# Altium schematic symbol library LIB_SCH.SchLib: 36 symbols
Pins are listed as number, name and electrical type; pins without a type are passive.

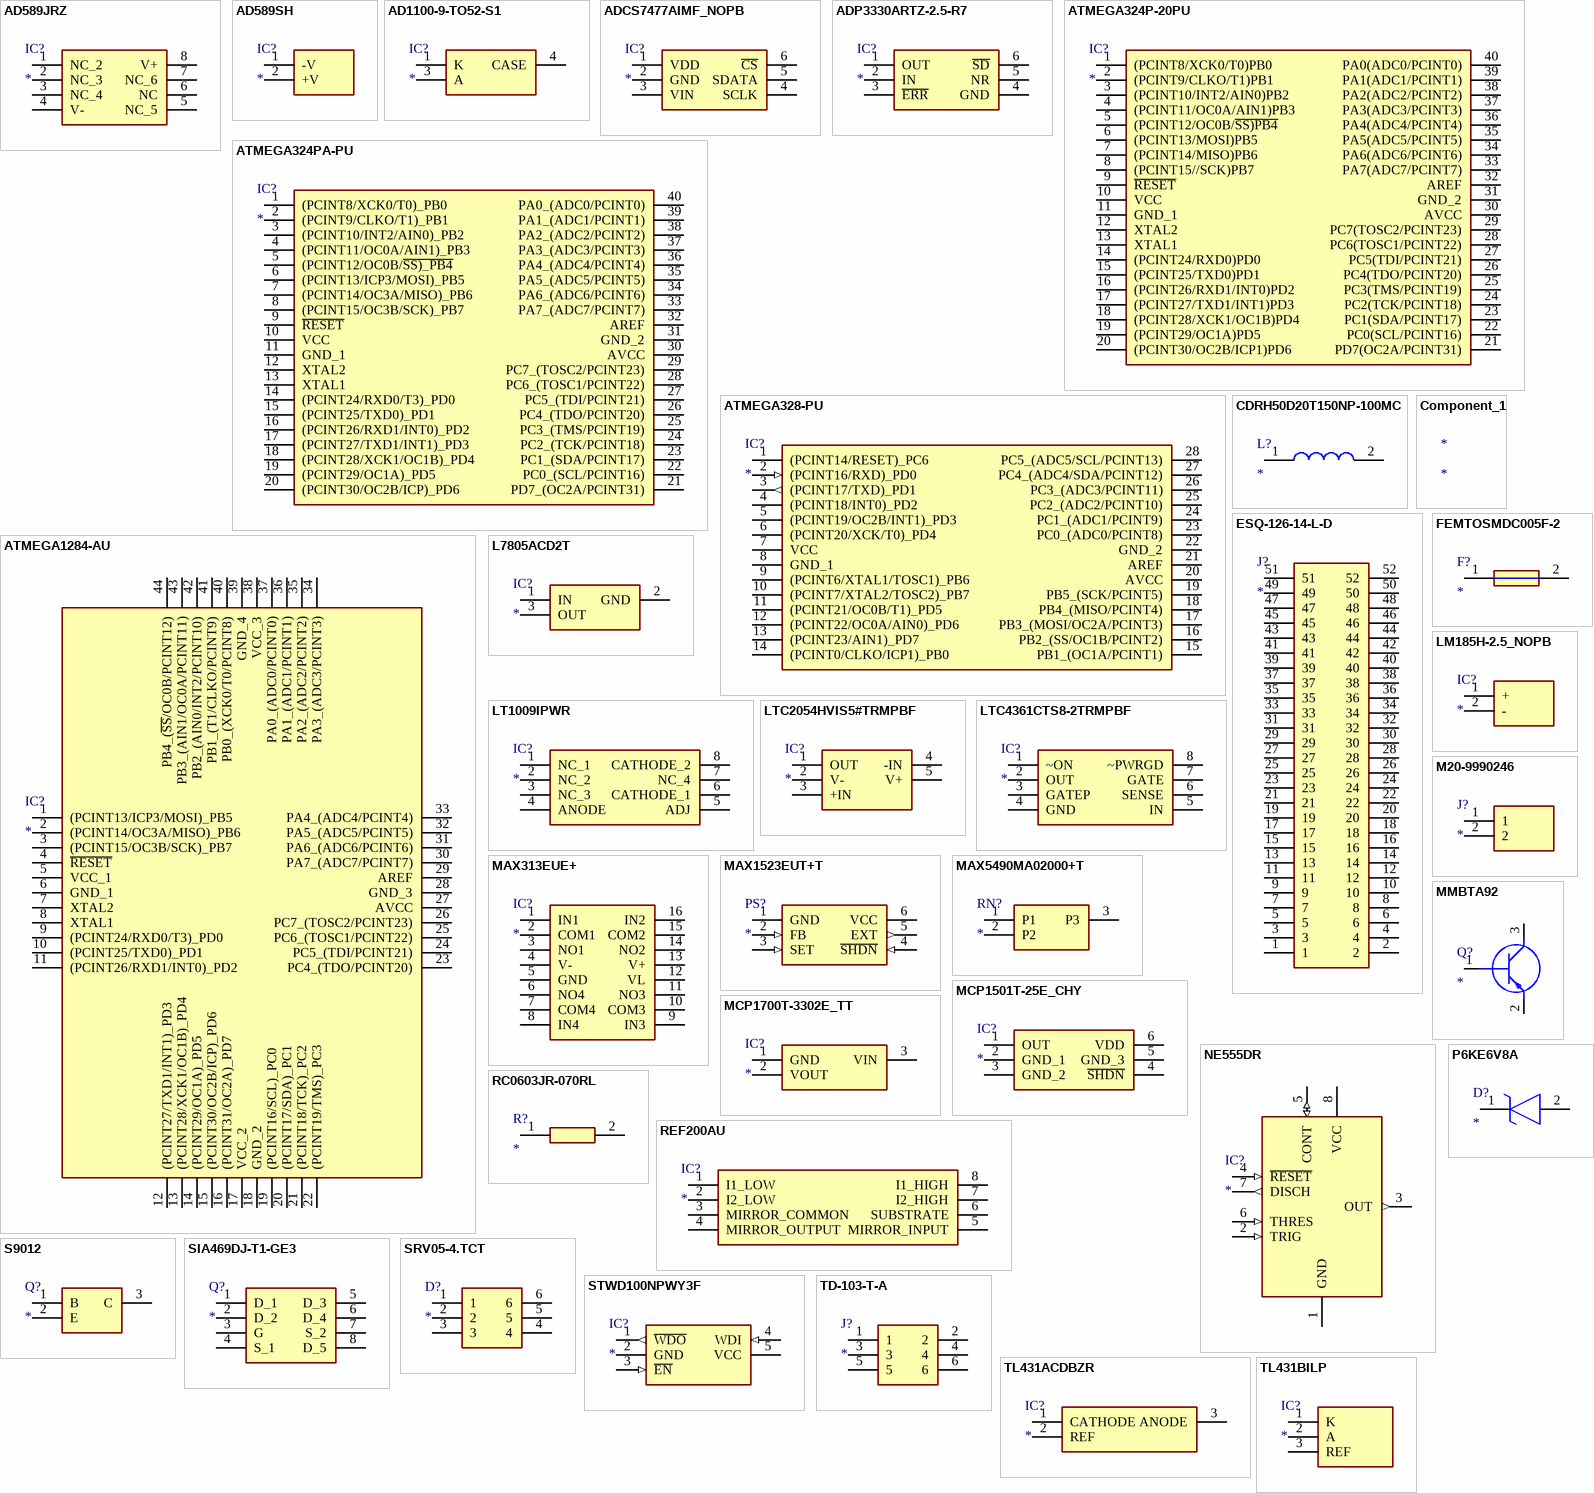
[diagram p0: symbols AD589JRZ to TL431BILP]

## AD589JRZ
designator IC?
Integrated Circuit; Manufacturer_Name: Analog Devices; Manufacturer_Part_Number: AD589JRZ; Mouser Part Number: 584-AD589JRZ; Mouser Price/Stock: https://www.mouser.co.uk/ProductDetail/Analog-Devices/AD589JRZ?qs=NmRFExCfTkHzEtio2bVR0A%3D%3D; Arrow Part Number: AD589JRZ; Arrow Price/Stock: https://www.arrow.com/en/products/ad589jrz/analog-devices
footprint SOIC127P600X175-8N
pins: 1 NC_2, 2 NC_3, 3 NC_4, 4 V-, 5 NC_5, 6 NC, 7 NC_6, 8 V+

## AD589SH
designator IC?
Integrated Circuit; Manufacturer_Name: Analog Devices; Manufacturer_Part_Number: AD589SH; Datasheet Link: https://www.analog.com/media/en/technical-documentation/data-sheets/AD589.pdf; Height: 3.81mm; Mouser Part Number: 584-AD589SH; Mouser Price/Stock: https://www.mouser.co.uk/ProductDetail/Analog-Devices/AD589SH?qs=NmRFExCfTkHqcB3b9%2F7R8g%3D%3D; Arrow Part Number: AD589SH; Arrow Price/Stock: https://www.arrow.com/en/products/ad589sh/analog-devices
footprint AD589SH
pins: 1 -V, 2 +V

## AD1100-9-TO52-S1
designator IC?
Integrated Circuit; Manufacturer_Name: First Sensor; Manufacturer_Part_Number: AD1100-9-TO52-S1; Datasheet Link: https://componentsearchengine.com/Datasheets/1/AD1100-9-TO52-S1.pdf; Height: 3.6mm; Mouser Part Number: 718-AD1100-9-TO52-S1; Mouser Price/Stock: https://www.mouser.co.uk/ProductDetail/First-Sensor/AD1100-9-TO52-S1?qs=keRvjh9BIFXF%252B1mnp2TOEA%3D%3D
footprint AD11009TO52S1
pins: 1 K, 3 A, 4 CASE

## ADCS7477AIMF_NOPB
designator IC?
Integrated Circuit; Manufacturer_Name: Texas Instruments; Manufacturer_Part_Number: ADCS7477AIMF/NOPB; Datasheet Link: http://www.ti.com/lit/gpn/adcs7477; Height: 1.45mm; Mouser Part Number: 926-ADCS7477AIMFNOPB; Mouser Price/Stock: https://www.mouser.co.uk/ProductDetail/Texas-Instruments/ADCS7477AIMF-NOPB?qs=7X5t%252BdzoRHDVFfiGvESEcQ%3D%3D; Arrow Part Number: ADCS7477AIMF/NOPB; Arrow Price/Stock: https://www.arrow.com/en/products/adcs7477aimfnopb/texas-instruments?region=nac
footprint SOT95P280X145-6N
pins: 1 VDD, 2 GND, 3 VIN, 4 SCLK, 5 SDATA, 6 ~{CS}

## ADP3330ARTZ-2.5-R7
designator IC?
Integrated Circuit; Manufacturer_Name: Analog Devices; Manufacturer_Part_Number: ADP3330ARTZ-2.5-R7; Datasheet Link: http://www.analog.com/static/imported-files/data_sheets/ADP3330.pdf; Height: 1.45mm; Mouser Part Number: 584-ADP3330ARTZ2.5R7; Mouser Price/Stock: https://www.mouser.co.uk/ProductDetail/Analog-Devices/ADP3330ARTZ-2.5-R7?qs=WIvQP4zGanjH7wtIYIB7Qw%3D%3D; Arrow Part Number: ADP3330ARTZ-2.5-R7; Arrow Price/Stock: https://www.arrow.com/en/products/adp3330artz-2.5-r7/analog-devices?utm_currency=USD&region=nac
footprint SOT95P280X145-6N
pins: 1 OUT, 2 IN, 3 ~{ERR}, 4 GND, 5 NR, 6 ~{SD}

## ATMEGA324P-20PU
designator IC?
Integrated Circuit; Manufacturer_Name: Microchip; Manufacturer_Part_Number: ATMEGA324P-20PU; Datasheet Link: https://datasheet.datasheetarchive.com/originals/distributors/Datasheets_SAMA/29f946cd03c7909d7b046ef5bb69a087.pdf; Height: 4.826mm; Mouser Part Number: 556-ATMEGA324P-20PU; Mouser Price/Stock: https://www.mouser.co.uk/ProductDetail/Microchip-Technology-Atmel/ATMEGA324P-20PU?qs=2mdvTlUeTfB7iniaUokNuw%3D%3D; Arrow Part Number: ATMEGA324P-20PU; Arrow Price/Stock: https://www.arrow.com/en/products/atmega324p-20pu/microchip-technology?region=nac
footprint DIP1556W56P254L5232H483Q40N
pins: 1 (PCINT8/XCK0/T0)PB0, 2 (PCINT9/CLKO/T1)PB1, 3 (PCINT10/INT2/AIN0)PB2, 4 (PCINT11/OC0A/AIN1)PB3, 5 (PCINT12/OC0B/~{SS)PB4}, 6 (PCINT13/MOSI)PB5, 7 (PCINT14/MISO)PB6, 8 (PCINT15//SCK)PB7, 9 ~{RESET}, 10 VCC, 11 GND_1, 12 XTAL2, 13 XTAL1, 14 (PCINT24/RXD0)PD0, 15 (PCINT25/TXD0)PD1, 16 (PCINT26/RXD1/INT0)PD2, 17 (PCINT27/TXD1/INT1)PD3, 18 (PCINT28/XCK1/OC1B)PD4, 19 (PCINT29/OC1A)PD5, 20 (PCINT30/OC2B/ICP1)PD6, 21 PD7(OC2A/PCINT31), 22 PC0(SCL/PCINT16), 23 PC1(SDA/PCINT17), 24 PC2(TCK/PCINT18), 25 PC3(TMS/PCINT19), 26 PC4(TDO/PCINT20), 27 PC5(TDI/PCINT21), 28 PC6(TOSC1/PCINT22), 29 PC7(TOSC2/PCINT23), 30 AVCC, 31 GND_2, 32 AREF, 33 PA7(ADC7/PCINT7), 34 PA6(ADC6/PCINT6), 35 PA5(ADC5/PCINT5), 36 PA4(ADC4/PCINT4), 37 PA3(ADC3/PCINT3), 38 PA2(ADC2/PCINT2), 39 PA1(ADC1/PCINT1), 40 PA0(ADC0/PCINT0)

## ATMEGA324PA-PU
designator IC?
Integrated Circuit; Manufacturer_Name: Microchip; Manufacturer_Part_Number: ATMEGA324PA-PU; Datasheet Link: http://www.atmel.com/images/atmel-8272-8-bit-avr-microcontroller-atmega164a_pa-324a_pa-644a_pa-1284_p_summary.pdf; Height: 6.35mm; Mouser Part Number: 556-ATMEGA324PA-PU; Mouser Price/Stock: https://www.mouser.co.uk/ProductDetail/Microchip-Technology/ATMEGA324PA-PU?qs=nE%2FgAoToukEVEV5bCZTgFQ%3D%3D; Arrow Part Number: ATMEGA324PA-PU; Arrow Price/Stock: https://www.arrow.com/en/products/atmega324pa-pu/microchip-technology?region=europe
footprint DIP1543W58P254L5175H635Q40N
pins: 1 (PCINT8/XCK0/T0)_PB0, 2 (PCINT9/CLKO/T1)_PB1, 3 (PCINT10/INT2/AIN0)_PB2, 4 (PCINT11/OC0A/AIN1)_PB3, 5 (PCINT12/OC0B/~{SS)_PB4}, 6 (PCINT13/ICP3/MOSI)_PB5, 7 (PCINT14/OC3A/MISO)_PB6, 8 (PCINT15/OC3B/SCK)_PB7, 9 ~{RESET}, 10 VCC, 11 GND_1, 12 XTAL2, 13 XTAL1, 14 (PCINT24/RXD0/T3)_PD0, 15 (PCINT25/TXD0)_PD1, 16 (PCINT26/RXD1/INT0)_PD2, 17 (PCINT27/TXD1/INT1)_PD3, 18 (PCINT28/XCK1/OC1B)_PD4, 19 (PCINT29/OC1A)_PD5, 20 (PCINT30/OC2B/ICP)_PD6, 21 PD7_(OC2A/PCINT31), 22 PC0_(SCL/PCINT16), 23 PC1_(SDA/PCINT17), 24 PC2_(TCK/PCINT18), 25 PC3_(TMS/PCINT19), 26 PC4_(TDO/PCINT20), 27 PC5_(TDI/PCINT21), 28 PC6_(TOSC1/PCINT22), 29 PC7_(TOSC2/PCINT23), 30 AVCC, 31 GND_2, 32 AREF, 33 PA7_(ADC7/PCINT7), 34 PA6_(ADC6/PCINT6), 35 PA5_(ADC5/PCINT5), 36 PA4_(ADC4/PCINT4), 37 PA3_(ADC3/PCINT3), 38 PA2_(ADC2/PCINT2), 39 PA1_(ADC1/PCINT1), 40 PA0_(ADC0/PCINT0)

## ATMEGA328-PU
designator IC?
Integrated Circuit; Manufacturer_Name: Microchip; Manufacturer_Part_Number: ATMEGA328-PU; Datasheet Link: https://componentsearchengine.com/Datasheets/1/ATMEGA328-PU.pdf; Height: 4.572mm; Mouser Part Number: 556-ATMEGA328-PU; Mouser Price/Stock: https://www.mouser.co.uk/ProductDetail/Microchip-Technology/ATMEGA328-PU?qs=lwdSMh1%2FoYJT8tfItQpQtA%3D%3D; Arrow Part Number: ATMEGA328-PU; Arrow Price/Stock: https://www.arrow.com/en/products/atmega328-pu/microchip-technology?region=nac
footprint DIP1016W53P254L3468H457Q28N
pins: 1 (PCINT14/RESET)_PC6, 2 (PCINT16/RXD)_PD0 (in), 3 (PCINT17/TXD)_PD1 (out), 4 (PCINT18/INT0)_PD2, 5 (PCINT19/OC2B/INT1)_PD3, 6 (PCINT20/XCK/T0)_PD4, 7 VCC (power), 8 GND_1 (power), 9 (PCINT6/XTAL1/TOSC1)_PB6, 10 (PCINT7/XTAL2/TOSC2)_PB7, 11 (PCINT21/OC0B/T1)_PD5, 12 (PCINT22/OC0A/AIN0)_PD6, 13 (PCINT23/AIN1)_PD7, 14 (PCINT0/CLKO/ICP1)_PB0, 15 PB1_(OC1A/PCINT1), 16 PB2_(SS/OC1B/PCINT2), 17 PB3_(MOSI/OC2A/PCINT3), 18 PB4_(MISO/PCINT4), 19 PB5_(SCK/PCINT5), 20 AVCC (power), 21 AREF, 22 GND_2 (power), 23 PC0_(ADC0/PCINT8), 24 PC1_(ADC1/PCINT9), 25 PC2_(ADC2/PCINT10), 26 PC3_(ADC3/PCINT11), 27 PC4_(ADC4/SDA/PCINT12), 28 PC5_(ADC5/SCL/PCINT13)

## ATMEGA1284-AU
designator IC?
Integrated Circuit; Manufacturer_Name: Microchip; Manufacturer_Part_Number: ATMEGA1284-AU; Datasheet Link: https://ww1.microchip.com/downloads/aemDocuments/documents/MCU08/ProductDocuments/DataSheets/ATmega164A_PA-324A_PA-644A_PA-1284_P_Data-Sheet-40002070B.pdf; Height: 1.2mm; Mouser Part Number: 556-ATMEGA1284-AU; Mouser Price/Stock: https://www.mouser.co.uk/ProductDetail/Microchip-Technology/ATMEGA1284-AU?qs=lwdSMh1%2FoYIVc6su4YHQGg%3D%3D; Arrow Part Number: ATMEGA1284-AU; Arrow Price/Stock: https://www.arrow.com/en/products/atmega1284-au/microchip-technology?region=europe
footprint QFP80P1200X1200X120-44N
pins: 1 (PCINT13/ICP3/MOSI)_PB5, 2 (PCINT14/OC3A/MISO)_PB6, 3 (PCINT15/OC3B/SCK)_PB7, 4 ~{RESET}, 5 VCC_1, 6 GND_1, 7 XTAL2, 8 XTAL1, 9 (PCINT24/RXD0/T3)_PD0, 10 (PCINT25/TXD0)_PD1, 11 (PCINT26/RXD1/INT0)_PD2, 12 (PCINT27/TXD1/INT1)_PD3, 13 (PCINT28/XCK1/OC1B)_PD4, 14 (PCINT29/OC1A)_PD5, 15 (PCINT30/OC2B/ICP)_PD6, 16 (PCINT31/OC2A)_PD7, 17 VCC_2, 18 GND_2, 19 (PCINT16/SCL)_PC0, 20 (PCINT17/SDA)_PC1, 21 (PCINT18/TCK)_PC2, 22 (PCINT19/TMS)_PC3, 23 PC4_(TDO/PCINT20), 24 PC5_(TDI/PCINT21), 25 PC6_(TOSC1/PCINT22), 26 PC7_(TOSC2/PCINT23), 27 AVCC, 28 GND_3, 29 AREF, 30 PA7_(ADC7/PCINT7), 31 PA6_(ADC6/PCINT6), 32 PA5_(ADC5/PCINT5), 33 PA4_(ADC4/PCINT4), 34 PA3_(ADC3/PCINT3), 35 PA2_(ADC2/PCINT2), 36 PA1_(ADC1/PCINT1), 37 PA0_(ADC0/PCINT0), 38 VCC_3, 39 GND_4, 40 PB0_(XCK0/T0/PCINT8), 41 PB1_(T1/CLKO/PCINT9), 42 PB2_(AIN0/INT2/PCINT10), 43 PB3_(AIN1/OC0A/PCINT11), 44 PB4_(~{SS}/OC0B/PCINT12)

## CDRH50D20T150NP-100MC
designator L?
Inductor; Manufacturer_Name: Sumida; Manufacturer_Part_Number: CDRH50D20T150NP-100MC; Datasheet Link: https://products.sumida.com/products/pdf/CDRH50D20T150_20140620.pdf; Height: 2.2mm; Mouser Part Number: 851-CDRH50D20T150100; Mouser Price/Stock: https://www.mouser.co.uk/ProductDetail/Sumida/CDRH50D20T150NP-100MC?qs=qSfuJ%252Bfl%2Fd4yojmKen2mmg%3D%3D
footprint CDRH50D20T150NP100MC
pins: 1, 2

## Component_1
designator *

## ESQ-126-14-L-D
designator J?
Connector; Manufacturer_Name: SAMTEC; Manufacturer_Part_Number: ESQ-126-14-L-D; Datasheet Link: http://suddendocs.samtec.com/prints/esq-1xx-xx-x-x-xxx-xx-x-xx-mkt.pdf; Mouser Part Number: 200-ESQ12614LD; Mouser Price/Stock: https://www.mouser.com/Search/Refine.aspx?Keyword=200-ESQ12614LD
footprint ESQ-126-Y-X-D
pins: 1, 2, 3, 4, 5, 6, 7, 8, 9, 10, 11, 12, 13, 14, 15, 16, 17, 18, 19, 20, 21, 22, 23, 24, 25, 26, 27, 28, 29, 30, 31, 32, 33, 34, 35, 36, 37, 38, 39, 40, 41, 42, 43, 44, 45, 46, 47, 48, 49, 50, 51, 52

## FEMTOSMDC005F-2
designator F?
Fuse; Manufacturer_Name: LITTELFUSE; Manufacturer_Part_Number: FEMTOSMDC005F-2; Datasheet Link: https://www.littelfuse.com/~/media/electronics/product_specifications/resettable_ptcs/littelfuse_ptc_femtosmdc005f_2_product_specification.pdf.pdf; Height: 0.85mm; Mouser Part Number: 650-FEMTOSMDC005F-2; Mouser Price/Stock: https://www.mouser.co.uk/ProductDetail/Littelfuse/FEMTOSMDC005F-2?qs=pBN%2FbMTRZde7DjsO%252B0Ugag%3D%3D; Arrow Part Number: FEMTOSMDC005F-2; Arrow Price/Stock: https://www.arrow.com/en/products/femtosmdc005f-2/littelfuse?region=nac
footprint FUSC1608X85N
pins: 1, 2

## L7805ACD2T
designator IC?
Integrated Circuit; Manufacturer_Name: STMicroelectronics; Manufacturer_Part_Number: L7805ACD2T; Datasheet Link: https://componentsearchengine.com/Datasheets/1/L7805ACD2T.pdf; Height: 4mm; Mouser Part Number: 511-L7805ACD2T; Mouser Price/Stock: https://www.mouser.co.uk/ProductDetail/STMicroelectronics/L7805ACD2T?qs=f9uBznyCLhZ5tRIsM0TDkA%3D%3D
footprint STB20N95K5
pins: 1 IN, 2 GND, 3 OUT

## LM185H-2.5_NOPB
designator IC?
Integrated Circuit; Manufacturer_Name: Texas Instruments; Manufacturer_Part_Number: LM185H-2.5/NOPB; Datasheet Link: http://www.ti.com/lit/ds/symlink/lm185-adj.pdf; Height: 2.67mm; Mouser Part Number: 926-LM185H-25/NOPB; Mouser Price/Stock: https://www.mouser.com/Search/Refine.aspx?Keyword=926-LM185H-25%2FNOPB; Arrow Part Number: LM185H-2.5/NOPB; Arrow Price/Stock: https://www.arrow.com/en/products/lm185h-2.5nopb/texas-instruments
footprint LM185H25NOPB
pins: 1 +, 2 -

## LT1009IPWR
designator IC?
Integrated Circuit; Manufacturer_Name: Texas Instruments; Manufacturer_Part_Number: LT1009IPWR; Datasheet Link: http://www.ti.com/lit/gpn/lt1009; Height: 1.2mm; Mouser Part Number: 595-LT1009IPWR; Mouser Price/Stock: https://www.mouser.co.uk/ProductDetail/Texas-Instruments/LT1009IPWR?qs=paYhMW8qfivxcJ0dEN%2FpAA%3D%3D; Arrow Part Number: LT1009IPWR; Arrow Price/Stock: https://www.arrow.com/en/products/lt1009ipwr/texas-instruments?region=nac
footprint SOP65P640X120-8N
pins: 1 NC_1, 2 NC_2, 3 NC_3, 4 ANODE, 5 ADJ, 6 CATHODE_1, 7 NC_4, 8 CATHODE_2

## LTC2054HVIS5#TRMPBF
designator IC?
Integrated Circuit; Manufacturer_Name: Analog Devices; Manufacturer_Part_Number: LTC2054HVIS5#TRMPBF; Datasheet Link: https://componentsearchengine.com/Datasheets/2/LTC2054HVIS5#TRMPBF.pdf; Height: 1mm; Mouser Part Number: 584-C2054HVIS5TRMPBF; Mouser Price/Stock: https://www.mouser.co.uk/ProductDetail/Analog-Devices/LTC2054HVIS5TRMPBF?qs=hVkxg5c3xu8d%252Bhq5ZkgbWA%3D%3D; Arrow Part Number: LTC2054HVIS5#TRMPBF; Arrow Price/Stock: https://www.arrow.com/en/products/ltc2054hvis5trmpbf/analog-devices?region=nac
footprint SOT95P280X100-5N
pins: 1 OUT, 2 V-, 3 +IN, 4 -IN, 5 V+

## LTC4361CTS8-2TRMPBF
designator IC?
Integrated Circuit; Manufacturer_Name: Analog Devices; Manufacturer_Part_Number: LTC4361CTS8-2TRMPBF
footprint SOT65P280X100-8N
pins: 1 ~ON, 2 OUT, 3 GATEP, 4 GND, 5 IN, 6 SENSE, 7 GATE, 8 ~PWRGD

## M20-9990246
designator J?
Connector; Manufacturer_Name: Harwin; Manufacturer_Part_Number: M20-9990246; Datasheet Link: https://cdn.harwin.com/pdfs/M20-999.pdf; Height: 8.74mm; Mouser Part Number: 855-M20-9990246; Mouser Price/Stock: https://www.mouser.co.uk/ProductDetail/Harwin/M20-9990246?qs=Jph8NoUxIfWjw4WmyRvzag%3D%3D
footprint HDRV2W66P0X254_1X2_508X254X874P
pins: 1, 2

## MAX313EUE+
designator IC?
Integrated Circuit; Manufacturer_Name: Analog Devices; Manufacturer_Part_Number: MAX313EUE+; Datasheet Link: https://pdfserv.maximintegrated.com/en/ds/MAX312-MAX314.pdf; Height: 1.1mm; Mouser Part Number: 700-MAX313EUE; Mouser Price/Stock: https://www.mouser.co.uk/ProductDetail/Analog-Devices-Maxim-Integrated/MAX313EUE%2b?qs=LHmEVA8xxfb0QccvxvFNCw%3D%3D
footprint SOP65P640X110-16N
pins: 1 IN1, 2 COM1, 3 NO1, 4 V-, 5 GND, 6 NO4, 7 COM4, 8 IN4, 9 IN3, 10 COM3, 11 NO3, 12 VL, 13 V+, 14 NO2, 15 COM2, 16 IN2

## MAX1523EUT+T
designator PS?
Power Supply; Manufacturer_Name: Analog Devices; Manufacturer_Part_Number: MAX1523EUT+T; Datasheet Link: https://componentsearchengine.com/Datasheets/2/MAX1523EUT+T.pdf; Height: 1.45mm; Mouser Part Number: 700-MAX1523EUTT; Mouser Price/Stock: https://www.mouser.co.uk/ProductDetail/Analog-Devices-Maxim-Integrated/MAX1523EUT%2bT?qs=Mqkh4jHMT8xQeKs%2FTYwXvQ%3D%3D
footprint SOT95P280X145-6N
pins: 1 GND (power), 2 FB (in), 3 SET (in), 4 ~{SHDN} (in), 5 EXT (out), 6 VCC (power)

## MAX5490MA02000+T
designator RN?
Resistor Network; Manufacturer_Name: Analog Devices; Manufacturer_Part_Number: MAX5490MA02000+T; Datasheet Link: https://eagle.componentsearchengine.com/Datasheets/2/MAX5490MA02000+T.pdf; Height: 1.12mm; Mouser Part Number: 700-MAX5490MA02000T; Mouser Price/Stock: https://www.mouser.co.uk/ProductDetail/Maxim-Integrated/MAX5490MA02000%2bT/?qs=nuXzIS8loXHYJGIDTV43Fg%3D%3D
footprint SOT95P237X112-3N
pins: 1 P1, 2 P2, 3 P3

## MCP1501T-25E_CHY
designator IC?
Integrated Circuit; Manufacturer_Name: Microchip; Manufacturer_Part_Number: MCP1501T-25E/CHY; Datasheet Link: http://ww1.microchip.com/downloads/en/DeviceDoc/20005474E.pdf; Height: 1.45mm; Mouser Part Number: 579-MCP1501T-25E/CHY; Mouser Price/Stock: https://www.mouser.co.uk/ProductDetail/Microchip-Technology/MCP1501T-25E-CHY?qs=8cKuZ6Ok2lamKE%2FJSRA5Gw%3D%3D; Arrow Part Number: MCP1501T-25E/CHY; Arrow Price/Stock: https://www.arrow.com/en/products/mcp1501t-25echy/microchip-technology?region=nac
footprint SOT95P280X145-6N
pins: 1 OUT, 2 GND_1, 3 GND_2, 4 ~{SHDN}, 5 GND_3, 6 VDD

## MCP1700T-3302E_TT
designator IC?
Integrated Circuit; Manufacturer_Name: Microchip; Manufacturer_Part_Number: MCP1700T-3302E/TT; Datasheet Link: https://datasheet.datasheetarchive.com/originals/distributors/SFDatasheet-4/sf-00090030.pdf; Height: 1.12mm; Mouser Part Number: 579-MCP1700T3302E/TT; Mouser Price/Stock: https://www.mouser.co.uk/ProductDetail/Microchip-Technology/MCP1700T-3302E-TT?qs=fM4xO01eazPmCNDrdHEdaw%3D%3D; Arrow Part Number: MCP1700T-3302E/TT; Arrow Price/Stock: https://www.arrow.com/en/products/mcp1700t-3302ett/microchip-technology?utm_currency=USD&region=europe
footprint SOT95P237X112-3N
pins: 1 GND, 2 VOUT, 3 VIN

## MMBTA92
designator Q?
Transistor BJT PNP; Manufacturer_Name: KEC; Manufacturer_Part_Number: MMBTA92; Datasheet Link: https://www.alldatasheet.com/datasheet-pdf/pdf/69996/KEC/MMBTA92.html; Height: 1.3mm
footprint SOT95P245X130-3N
pins: 1 B, 2 E, 3 C

## NE555DR
designator IC?
Integrated Circuit; Manufacturer_Name: Texas Instruments; Manufacturer_Part_Number: NE555DR; Datasheet Link: http://www.ti.com/lit/ds/symlink/ne555.pdf; Height: 1.75mm; Mouser Part Number: 595-NE555DR; Mouser Price/Stock: https://www.mouser.com/Search/Refine.aspx?Keyword=595-NE555DR; RS Part Number: 1218414; RS Price/Stock: http://uk.rs-online.com/web/p/products/1218414
footprint SOIC127P600X175-8N
pins: 1 GND (power), 2 TRIG (in), 3 OUT (out), 4 ~{RESET} (in), 5 CONT (io), 6 THRES (in), 7 DISCH (out), 8 VCC (power)

## P6KE6V8A
designator D?
TVS Diode (Uni-directional); Manufacturer_Name: STMicroelectronics; Manufacturer_Part_Number: P6KE6V8A; Datasheet Link: http://www.st.com/web/en/resource/technical/document/datasheet/CD00000720.pdf; Mouser Part Number: 511-P6KE6V8A; Mouser Price/Stock: https://www.mouser.co.uk/ProductDetail/STMicroelectronics/P6KE6V8A?qs=mLGruWOCTdFKkIHX7kO7Kg%3D%3D; Arrow Part Number: P6KE6V8A; Arrow Price/Stock: https://www.arrow.com/en/products/p6ke6v8a/stmicroelectronics?region=nac
footprint DIOAD1936W88L640D324
pins: 1 K, 2 A

## RC0603JR-070RL
designator R?
Resistor; Manufacturer_Name: YAGEO; Manufacturer_Part_Number: RC0603JR-070RL; Datasheet Link: https://componentsearchengine.com/Datasheets/2/RC0603JR-070RL.pdf; Height: 0.55mm; Mouser Part Number: 603-RC0603JR-070RL; Mouser Price/Stock: https://www.mouser.co.uk/ProductDetail/YAGEO/RC0603JR-070RL?qs=2cAdsCoAWRGWyPcuXgGiXQ%3D%3D; Arrow Part Number: RC0603JR-070RL; Arrow Price/Stock: https://www.arrow.com/en/products/rc0603jr-070rl/yageo?utm_currency=USD&region=europe
footprint RESC1608X55N
pins: 1, 2

## REF200AU
designator IC?
Integrated Circuit; Manufacturer_Name: BURR-BROWN; Manufacturer_Part_Number: REF200AU; Datasheet Link: https://datasheet.datasheetarchive.com/originals/distributors/Datasheets-7/DSA-125340.pdf; Height: 1.75mm
footprint SOIC127P600X175-8N
pins: 1 I1_LOW, 2 I2_LOW, 3 MIRROR_COMMON, 4 MIRROR_OUTPUT, 5 MIRROR_INPUT, 6 SUBSTRATE, 7 I2_HIGH, 8 I1_HIGH

## S9012
designator Q?
Transistor; Manufacturer_Name: Changjiang Electronics Tech (CJ); Manufacturer_Part_Number: S9012; Datasheet Link: https://datasheet.lcsc.com/szlcsc/Changjiang-Electronics-Tech-CJ-S9012_C107405.pdf; Height: 1.15mm
footprint SOT95P240X115-3N
pins: 1 B, 2 E, 3 C

## SIA469DJ-T1-GE3
designator Q?
MOSFET (P-Channel); Manufacturer_Name: Vishay; Manufacturer_Part_Number: SIA469DJ-T1-GE3; Datasheet Link: https://www.vishay.com/docs/75354/sia469dj.pdf; Height: 0.8mm; Mouser Part Number: 78-SIA469DJ-T1-GE3; Mouser Price/Stock: https://www.mouser.co.uk/ProductDetail/Vishay-Semiconductors/SIA469DJ-T1-GE3?qs=Mv7BduZupUgbJoE4KbXcMA%3D%3D; Arrow Part Number: SIA469DJ-T1-GE3; Arrow Price/Stock: null?region=nac
footprint SIA469DJT1GE3
pins: 1 D_1, 2 D_2, 3 G, 4 S_1, 5 D_3, 6 D_4, 7 S_2, 8 D_5

## SRV05-4.TCT
designator D?
TVS Diode (Uni-directional); Manufacturer_Name: SEMTECH; Manufacturer_Part_Number: SRV05-4.TCT; Datasheet Link: https://datasheet.datasheetarchive.com/originals/distributors/Datasheets-DGA26/1842016.pdf; Height: 1.45mm; Mouser Part Number: 947-SRV05-4.TCT; Mouser Price/Stock: https://www.mouser.co.uk/ProductDetail/Semtech/SRV05-4.TCT?qs=rBWM4%252BvDhIe0tfPjqKjR5Q%3D%3D; Arrow Part Number: SRV05-4.TCT; Arrow Price/Stock: https://www.arrow.com/en/products/srv05-4.tct/semtech?utm_currency=USD&region=nac
footprint SOT95P280X145-6N
pins: 1, 2, 3, 4, 5, 6

## STWD100NPWY3F
designator IC?
Integrated Circuit; Manufacturer_Name: STMicroelectronics; Manufacturer_Part_Number: STWD100NPWY3F; Datasheet Link: http://www.st.com/st-web-ui/static/active/en/resource/technical/document/datasheet/CD00176077.pdf; Height: 1.45mm; Mouser Part Number: 511-STWD100NPWY3F; Mouser Price/Stock: https://www.mouser.co.uk/ProductDetail/STMicroelectronics/STWD100NPWY3F?qs=EIgIgHbwPd1udM5CaLDvHQ%3D%3D; Arrow Part Number: STWD100NPWY3F; Arrow Price/Stock: https://www.arrow.com/en/products/stwd100npwy3f/stmicroelectronics?utm_currency=USD&region=nac
footprint SOT95P280X145-5N
pins: 1 ~{WDO} (out), 2 GND (power), 3 ~{EN} (in), 4 WDI (in), 5 VCC (power)

## TD-103-T-A
designator J?
Connector; Manufacturer_Name: SAMTEC; Manufacturer_Part_Number: TD-103-T-A; Mouser Part Number: 200-TD103TA; Mouser Price/Stock: https://www.mouser.com/Search/Refine.aspx?Keyword=200-TD103TA; Arrow Part Number: TD-103-T-A; Arrow Price/Stock: https://www.arrow.com/en/products/td-103-t-a/samtec
footprint SAMTEC_TD-103-T-A
pins: 1, 2, 3, 4, 5, 6

## TL431ACDBZR
designator IC?
Integrated Circuit; Manufacturer_Name: Texas Instruments; Manufacturer_Part_Number: TL431ACDBZR; Datasheet Link: https://datasheet.datasheetarchive.com/originals/distributors/SFDatasheet-6/sf-000131849.pdf; Mouser Part Number: 595-TL431ACDBZR; Mouser Price/Stock: https://www.mouser.co.uk/ProductDetail/Texas-Instruments/TL431ACDBZR?qs=odmYgEirbwzMcBuFx%2Fo8hQ%3D%3D; Arrow Part Number: TL431ACDBZR; Arrow Price/Stock: https://www.arrow.com/en/products/tl431acdbzr/texas-instruments?region=nac
footprint SOT95P237X112-3N
pins: 1 CATHODE, 2 REF, 3 ANODE

## TL431BILP
designator IC?
Integrated Circuit; Manufacturer_Name: Texas Instruments; Manufacturer_Part_Number: TL431BILP; Datasheet Link: http://www.ti.com/lit/gpn/TL431; Height: 5.34mm; Mouser Part Number: 595-TL431BILP; Mouser Price/Stock: https://www.mouser.co.uk/ProductDetail/Texas-Instruments/TL431BILP?qs=odmYgEirbwxozGpspgRJ2w%3D%3D; Arrow Part Number: TL431BILP; Arrow Price/Stock: https://www.arrow.com/en/products/tl431bilp/texas-instruments
footprint TL431BILP
pins: 1 K, 2 A, 3 REF